# EAGLE library part MIC4468YWM (library BlueHome)
None
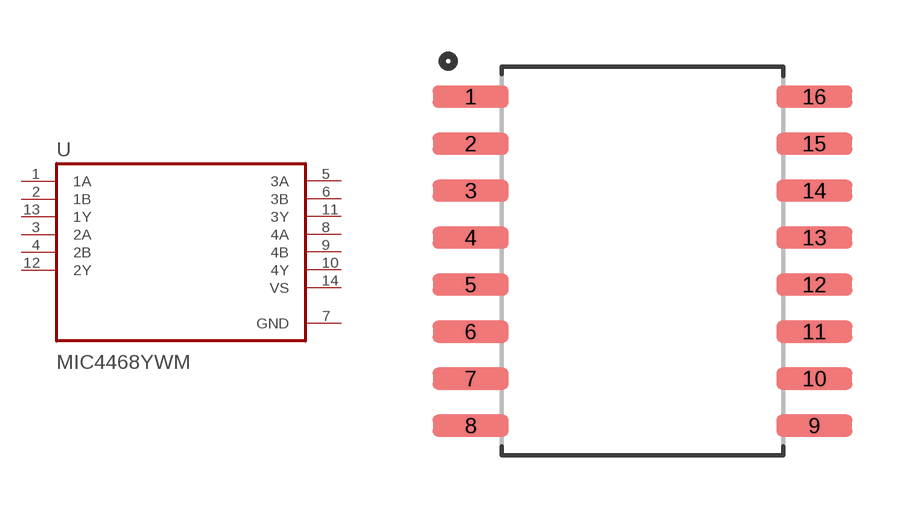
[diagram p11: symbol with the pads of SOIC127P1030X265-16N; footprint SOIC127P1030X265-16N]

Designator prefix U

## MIC4468YWM (AVAILABILITY: Unavailable; DESCRIPTION: MIC4468 Series 5 Ohm 1.2 A Quad Peak Low-Side MOSFET Driver - SOIC-16W; MF: Microchip; MP: MIC4468YWM; PACKAGE: SOIC-16 Microchip; PRICE: None)  [SOIC127P1030X265-16N]
1  1A
2  1B
3  2A
4  2B
5  3A
6  3B
7  GND  pwr
8  4A
9  4B
10  4Y
11  3Y
12  2Y
13  1Y
14  VS

## Footprint SOIC127P1030X265-16N (pad centres in mm)
Small Outline Package .300 SIOC Source: http://www.maxim-ic.com/cgi-bin/packages?pkg=16%2FSOIC%2E300&Type=Max
smd 2.06 x 0.6: 1 -4.64,4.445; 2 -4.64,3.175; 3 -4.64,1.905; 4 -4.64,0.635; 5 -4.64,-0.635; 6 -4.64,-1.905; 7 -4.64,-3.175; 8 -4.64,-4.445; 9 4.64,-4.445; 10 4.64,-3.175; 11 4.64,-1.905; 12 4.64,-0.635; 13 4.64,0.635; 14 4.64,1.905; 15 4.64,3.175; 16 4.64,4.445